# EAGLE library part ABP-SERIES-LEADLESS-SMD (library ArunEworld-Honeywell-Pressure-Sensors)
Basic Board Mount Pressure Sensors ABP Series—High Accuracy, Compensated/Amplified 60 mbar to 10 bar | 6 kPa to 1 MPa | 1 psi to 150 psi Digital or Analog Output, Liquid Media Capable For More :- https://sensing.honeywell.com/sensors/amplified-board-mount-pressure-sensors/basic-ABP-series Website :- www.ArunEworld.com
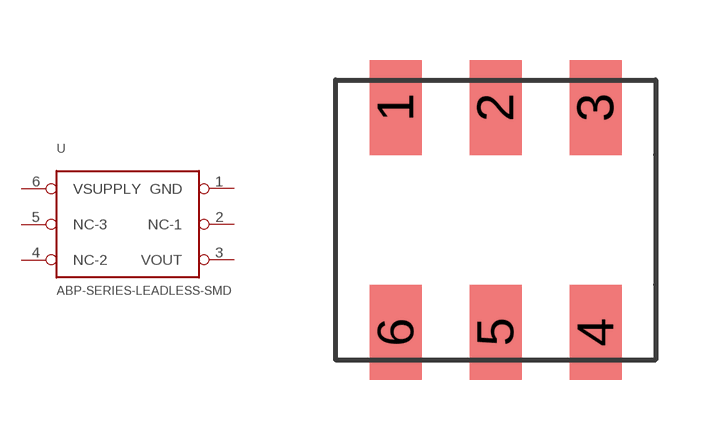
[diagram p0: symbol with the pads of ABS-SERIES-LEADLESS-SMD; footprint ABS-SERIES-LEADLESS-SMD]

Designator prefix -

## ABP-SERIES-LEADLESS-SMD  [ABS-SERIES-LEADLESS-SMD]
1  GND
2  NC-1
3  VOUT
4  NC-2
5  NC-3
6  VSUPPLY

## Footprint ABS-SERIES-LEADLESS-SMD (pad centres in mm)
ABS-Series-LEADLESS-SMD
smd 1.3 x 2.375: 1 1.5,6.812; 2 4,6.812; 3 6.5,6.812; 4 6.5,1.188; 5 4,1.188; 6 1.5,1.188